# Altium footprint library PcbLib.PcbLib: 19 footprints (part 2 of 2)
Each footprint in its own frame and in the unit in brackets; x right, y up, seen from the top. Pads: shape width x height; smd on the part's side, far side on the other; paste and mask are expansions set on the pad; w line width, h text height; cw(c..) or ccw(c..) is an arc to the next point about the centre after c.
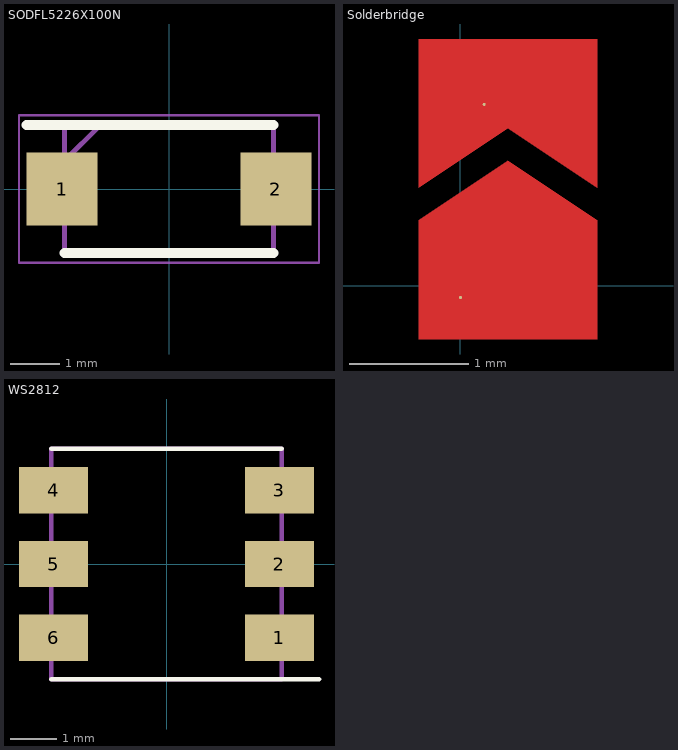
[diagram p1: the footprints below, top view; thin cyan lines are the x and y axes]

## SODFL5226X100N [mm]
pads (2):
  rect 1.45x1.49 smd: 1(-2.175,0) 2(2.175,0)
Top Overlay:
  lines w0.2: -2.9,1.3 2.125,1.3 ; -2.125,-1.3 2.125,-1.3
Mechanical 13:
  lines w0.1: -2.125,0.575 -1.4,1.3 ; -2.125,-1.3 -2.125,1.3 2.125,1.3 2.125,-1.3 -2.125,-1.3
Mechanical 15:
  lines w0.05: -3.05,-1.5 -3.05,1.5 3.05,1.5 3.05,-1.5 -3.05,-1.5
3D body "VS-2EJH02-M3_6B.stp": height 1, standoff 0, extent -2.6,-1.3 2.6,1.3

## Solderbridge [mil]
pads (2):
  round 1 smd mask+5.12: 1(0,-3.94) 2(7.87,60.04)
Top Layer:
  region: 45.28,32.48 15.75,52.17 -13.78,32.48 -13.78,81.69 45.28,81.69
  region: 15.75,41.34 45.28,21.65 45.28,-17.72 -13.78,-17.72 -13.78,21.65
Top Solder:
  region: -18.9,34.45 -18.9,18.7 -13.58,18.7 -13.58,34.45
  region: 45.28,34.45 45.28,18.7 50.39,18.7 50.39,34.45

## WS2812 [mm]
pads (6):
  rect 1.5x1 smd: 1(2.45,-1.6) 2(2.45,0) 3(2.45,1.6) 4(-2.45,1.6) 5(-2.45,0) 6(-2.45,-1.6)
Top Overlay:
  lines w0.1: -2.5,-2.5 3.307,-2.5 ; -2.5,2.5 2.5,2.5
Mechanical 13:
  lines w0.1: -2.5,-2.5 -2.5,2.5 2.5,2.5 2.5,-2.5 -2.5,-2.5
3D body "WS2812.stp": height 2.65, standoff 0, extent -3.2,-2.5 3.2,2.5